# Altium footprint library PCB1.PcbLib: 19 footprints (part 1 of 2)
Each footprint in its own frame and in the unit in brackets; x right, y up, seen from the top. Pads: shape width x height; smd on the part's side, far side on the other; paste and mask are expansions set on the pad; w line width, h text height; cw(c..) or ccw(c..) is an arc to the next point about the centre after c.
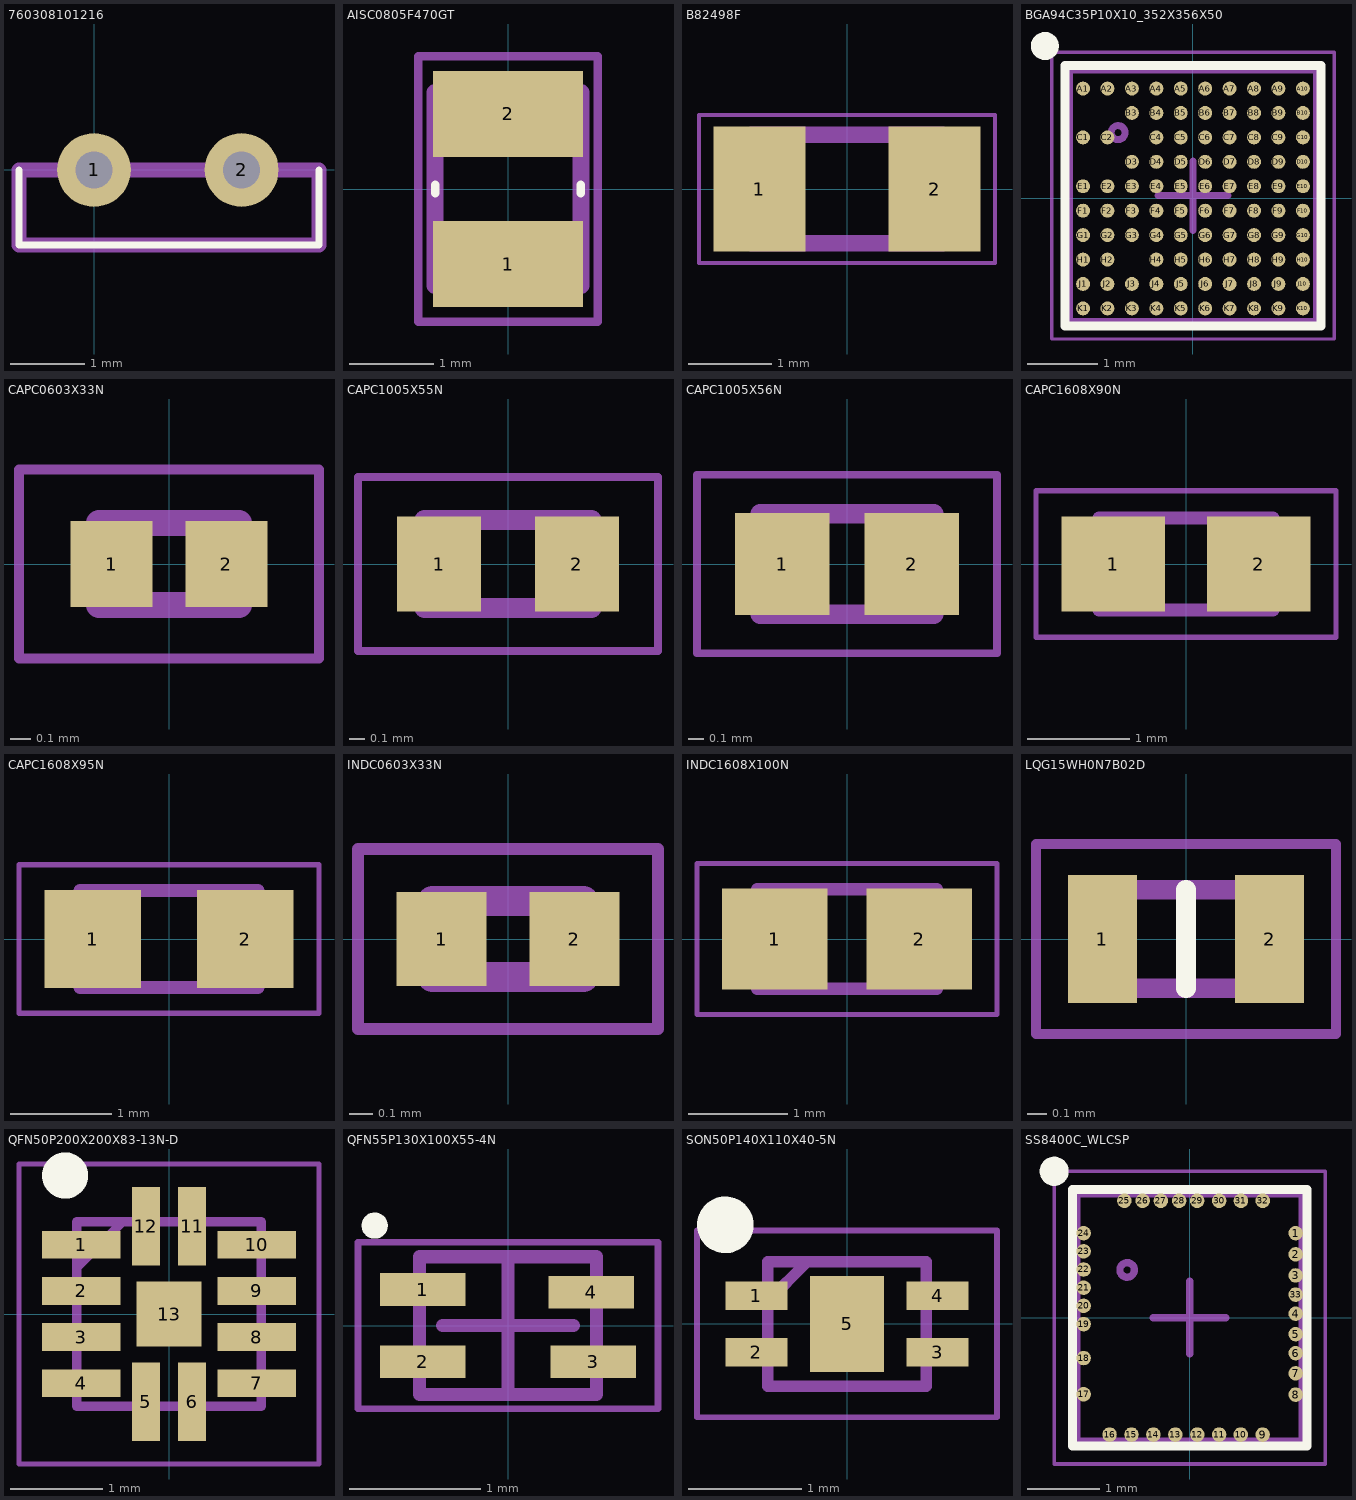
[diagram p0: the footprints below, top view; thin cyan lines are the x and y axes]

## 760308101216 [mm]
pads (2):
  round 1 hole 0.5 mask+0.102: 1(0,0) 2(2,0)
Top Overlay:
  lines w0.1: -1.016,0 -1.016,-1.016 3.048,-1.016 3.048,0
Mechanical 13:
  lines w0.2: -1.016,-1.016 3.048,-1.016 3.048,0 -1.016,0 -1.016,-1.016

## AISC0805F470GT [mm]
pads (2):
  rect 1.78x1.02 smd: 1(0,-0.89) 2(0,0.89)
Top Overlay:
  lines w0.1: -0.865,-0.05 -0.865,0.05 ; 0.865,-0.05 0.865,0.05
Mechanical 13:
  lines w0.2: -0.865,-1.145 -0.865,1.145 0.865,1.145 0.865,-1.145 -0.865,-1.145
Mechanical 15:
  lines w0.1: -1.067,-1.575 -1.067,1.575 1.067,1.575 1.067,-1.575 -1.067,-1.575

## B82498F [mm]
pads (2):
  rect 1.1x1.5 smd: 1(-1.05,0) 2(1.05,0)
Mechanical 13:
  lines w0.2: -1.15,-0.65 1.15,-0.65 1.15,0.65 -1.15,0.65 -1.15,-0.65
Mechanical 15:
  lines w0.05: -1.778,-0.889 1.778,-0.889 1.778,0.889 -1.778,0.889 -1.778,-0.889
3D body "B82498F1472J000.stp": height 1.28, standoff -0.01, extent -1.1,-0.815 1.1,0.815

## BGA94C35P10X10_352X356X50 [mm]
pads (94):
  round 0.2 smd mask+0.04: A1(-1.575,1.575) A2(-1.225,1.575) A3(-0.875,1.575) A4(-0.525,1.575) A5(-0.175,1.575) A6(0.175,1.575) A7(0.525,1.575) A8(0.875,1.575) A9(1.225,1.575) A10(1.575,1.575) B3(-0.875,1.225) B4(-0.525,1.225) B5(-0.175,1.225) B6(0.175,1.225) B7(0.525,1.225) B8(0.875,1.225) B9(1.225,1.225) B10(1.575,1.225) C1(-1.575,0.875) C2(-1.225,0.875) C4(-0.525,0.875) C5(-0.175,0.875) C6(0.175,0.875) C7(0.525,0.875) C8(0.875,0.875) C9(1.225,0.875) C10(1.575,0.875) D3(-0.875,0.525) D4(-0.525,0.525) D5(-0.175,0.525) D6(0.175,0.525) D7(0.525,0.525) D8(0.875,0.525) D9(1.225,0.525) D10(1.575,0.525) E1(-1.575,0.175) E2(-1.225,0.175) E3(-0.875,0.175) E4(-0.525,0.175) E5(-0.175,0.175) E6(0.175,0.175) E7(0.525,0.175) E8(0.875,0.175) E9(1.225,0.175) E10(1.575,0.175) F1(-1.575,-0.175) F2(-1.225,-0.175) F3(-0.875,-0.175) F4(-0.525,-0.175) F5(-0.175,-0.175) F6(0.175,-0.175) F7(0.525,-0.175) F8(0.875,-0.175) F9(1.225,-0.175) F10(1.575,-0.175) G1(-1.575,-0.525) G2(-1.225,-0.525) G3(-0.875,-0.525) G4(-0.525,-0.525) G5(-0.175,-0.525) G6(0.175,-0.525) G7(0.525,-0.525) G8(0.875,-0.525) G9(1.225,-0.525) G10(1.575,-0.525) H1(-1.575,-0.875) H2(-1.225,-0.875) H4(-0.525,-0.875) H5(-0.175,-0.875) H6(0.175,-0.875) H7(0.525,-0.875) H8(0.875,-0.875) H9(1.225,-0.875) H10(1.575,-0.875) J1(-1.575,-1.225) J2(-1.225,-1.225) J3(-0.875,-1.225) J4(-0.525,-1.225) J5(-0.175,-1.225) J6(0.175,-1.225) J7(0.525,-1.225) J8(0.875,-1.225) J9(1.225,-1.225) J10(1.575,-1.225) K1(-1.575,-1.575) K2(-1.225,-1.575) K3(-0.875,-1.575) K4(-0.525,-1.575) K5(-0.175,-1.575) K6(0.175,-1.575) K7(0.525,-1.575) K8(0.875,-1.575) K9(1.225,-1.575) K10(1.575,-1.575)
Top Overlay:
  circle w0.2: c-2.122,2.184 r0.1
  lines w0.125: -1.834,-1.826 -1.834,1.906 1.835,1.906 1.835,-1.826 -1.834,-1.826
Bottom Assembly:
  circle w0.1: c-1.072,0.944 r0.1
  lines w0.1: -1.772,-1.763 1.772,-1.763 1.772,1.844 -1.772,1.844 -1.772,-1.763
  text ".Designator" at -0.7,-0.135 h0.5
Mechanical 15:
  lines w0.05: -2.022,-2.013 2.022,-2.013 2.022,2.094 -2.022,2.094 -2.022,-2.013
  lines w0.1: -0.5,0.04 0.5,0.04 ; 0,-0.46 0,0.54
3D body "Graviton CSP.step": height 0.47, standoff 0, extent -1.772,-1.763 1.772,1.844

## CAPC0603X33N [mm]
pads (2):
  rect 0.4x0.42 smd: 1(-0.28,0) 2(0.28,0)
Mechanical 13:
  lines w0.127: -0.34,-0.2 0.34,-0.2 0.34,0.2 -0.34,0.2 -0.34,-0.2
Mechanical 15:
  lines w0.05: -0.731,-0.461 0.731,-0.461 0.731,0.461 -0.731,0.461 -0.731,-0.461
3D body "step_temp.STEP": height 0.33, standoff 0, extent -0.3,-0.15 0.3,0.15

## CAPC1005X55N [mm]
pads (2):
  rect 0.53x0.6 smd: 1(-0.437,0) 2(0.437,0)
Mechanical 13:
  lines w0.127: -0.53,-0.28 0.53,-0.28 0.53,0.28 -0.53,0.28 -0.53,-0.28
Mechanical 15:
  lines w0.05: -0.95,-0.55 0.95,-0.55 0.95,0.55 -0.95,0.55 -0.95,-0.55
3D body "step_temp.STEP": height 0.55, standoff 0, extent -0.5,-0.25 0.5,0.25

## CAPC1005X56N [mm]
pads (2):
  rect 0.62x0.67 smd: 1(-0.425,0) 2(0.425,0)
Mechanical 13:
  lines w0.127: -0.57,-0.33 0.57,-0.33 0.57,0.33 -0.57,0.33 -0.57,-0.33
Mechanical 15:
  lines w0.05: -0.985,-0.585 0.985,-0.585 0.985,0.585 -0.985,0.585 -0.985,-0.585
3D body "step_temp.STEP": height 0.56, standoff 0, extent -0.5,-0.25 0.5,0.25

## CAPC1608X90N [mm]
pads (2):
  rect 1.01x0.93 smd: 1(-0.709,0) 2(0.709,0)
Mechanical 13:
  lines w0.127: -0.85,-0.45 0.85,-0.45 0.85,0.45 -0.85,0.45 -0.85,-0.45
Mechanical 15:
  lines w0.05: -1.465,-0.715 1.465,-0.715 1.465,0.715 -1.465,0.715 -1.465,-0.715
3D body "step_temp.STEP": height 0.9, standoff 0, extent -0.8,-0.4 0.8,0.4

## CAPC1608X95N [mm]
pads (2):
  rect 0.96x0.97 smd: 1(-0.755,0) 2(0.755,0)
Mechanical 13:
  lines w0.127: -0.88,-0.48 0.88,-0.48 0.88,0.48 -0.88,0.48 -0.88,-0.48
Mechanical 15:
  lines w0.05: -1.485,-0.735 1.485,-0.735 1.485,0.735 -1.485,0.735 -1.485,-0.735
3D body "step_temp.STEP": height 0.95, standoff 0, extent -0.8,-0.4 0.8,0.4

## INDC0603X33N [mm]
pads (2):
  rect 0.38x0.4 smd: 1(-0.281,0) 2(0.281,0)
Mechanical 13:
  lines w0.127: -0.32,-0.16 0.32,-0.16 0.32,0.16 -0.32,0.16 -0.32,-0.16
Mechanical 15:
  lines w0.05: -0.635,-0.381 0.635,-0.381 0.635,0.381 -0.635,0.381 -0.635,-0.381
3D body "step_temp.STEP": height 0.33, standoff 0, extent -0.3,-0.15 0.3,0.15

## INDC1608X100N [mm]
pads (2):
  rect 1.06x1.02 smd: 1(-0.728,0) 2(0.728,0)
Mechanical 13:
  lines w0.127: -0.9,-0.5 -0.9,0.5 0.9,0.5 0.9,-0.5 -0.9,-0.5
Mechanical 15:
  lines w0.05: -1.508,-0.758 -1.508,0.758 1.508,0.758 1.508,-0.758 -1.508,-0.758
3D body "step_temp.STEP": height 1, standoff 0, extent -0.8,-0.4 0.8,0.4

## LQG15WH0N7B02D [mm]
pads (2):
  rect 0.35x0.65 smd: 1(-0.425,0) 2(0.425,0)
Top Overlay:
  lines w0.1: 0,-0.25 0,0.25
Mechanical 13:
  lines w0.1: -0.5,-0.25 -0.5,0.25 0.5,0.25 0.5,-0.25 -0.5,-0.25
Mechanical 15:
  lines w0.05: -0.762,-0.483 -0.762,0.483 0.762,0.483 0.762,-0.483 -0.762,-0.483
3D body "LQG15HN15NJ02D.stp": height 0.55, standoff 0, extent -0.5,-0.25 0.5,0.25

## QFN50P200X200X83-13N-D [mm]
pads (13):
  rect 0.85x0.3 smd: 1(-0.95,0.75) 2(-0.95,0.25) 3(-0.95,-0.25) 4(-0.95,-0.75) 7(0.95,-0.75) 8(0.95,-0.25) 9(0.95,0.25) 10(0.95,0.75)
  rect 0.3x0.85 smd: 5(-0.25,-0.95) 6(0.25,-0.95) 11(0.25,0.95) 12(-0.25,0.95)
  rect 0.7x0.7 smd: 13(0,0)
Top Overlay:
  circle w0.25: c-1.125,1.5 r0.125
Mechanical 13:
  lines w0.1: -1,0.5 -0.5,1 ; -1,-1 -1,1 1,1 1,-1 -1,-1
Mechanical 15:
  lines w0.05: -1.625,-1.625 -1.625,1.625 1.625,1.625 1.625,-1.625 -1.625,-1.625
3D body "LTC4126EV#TRMPBF.stp": height 0.83, standoff 0, extent -1.05,-1.05 1.05,1.05

## QFN55P130X100X55-4N [mm]
pads (4):
  rect 0.65x0.25 smd: 1(-0.65,0.275) 2(-0.65,-0.275) 3(0.65,-0.275) 4(0.635,0.254)
Top Overlay:
  circle w0.1: c-1.016,0.762 r0.05
Mechanical 13:
  lines w0.1: -0.675,-0.525 0.675,-0.525 0.675,0.525 -0.675,0.525 -0.675,-0.525
Mechanical 15:
  lines w0.05: -1.143,-0.635 1.143,-0.635 1.143,0.635 -1.143,0.635 -1.143,-0.635
  lines w0.1: -0.5,0 0.5,0 ; 0,-0.5 0,0.5
3D body "QFN55P130X100X55-4N.step": height 0.55, standoff 0, extent -0.725,-0.525 0.725,0.525

## SON50P140X110X40-5N [mm]
pads (5):
  rect 0.55x0.25 smd: 1(-0.8,0.25) 2(-0.8,-0.25) 3(0.8,-0.25) 4(0.8,0.25)
  rect 0.65x0.85 smd: 5(0,0)
Top Overlay:
  circle w0.25: c-1.075,0.875 r0.125
Mechanical 13:
  lines w0.1: -0.7,0.2 -0.35,0.55 ; -0.7,-0.55 0.7,-0.55 0.7,0.55 -0.7,0.55 -0.7,-0.55
Mechanical 15:
  lines w0.05: -1.325,-0.825 1.325,-0.825 1.325,0.825 -1.325,0.825 -1.325,-0.825
3D body "DRV5032FDDMRR.stp": height 0.4, standoff 0, extent -0.75,-0.55 0.75,0.55

## SS8400C_WLCSP [mm]
pads (33):
  round 0.2 smd mask+0.04: 1(1.458,1.162) 2(1.458,0.871) 3(1.458,0.58) 4(1.458,0.054) 5(1.458,-0.226) 6(1.458,-0.488) 7(1.458,-0.766) 8(1.458,-1.057) 9(1.003,-1.607) 10(0.703,-1.607) 11(0.406,-1.607) 12(0.106,-1.607) 13(-0.197,-1.607) 14(-0.497,-1.607) 15(-0.799,-1.607) 16(-1.101,-1.607) 17(-1.457,-1.053) 18(-1.457,-0.555) 19(-1.457,-0.088) 20(-1.457,0.162) 21(-1.457,0.412) 22(-1.457,0.662) 23(-1.457,0.912) 24(-1.457,1.162) 25(-0.897,1.608) 26(-0.646,1.608) 27(-0.397,1.608) 28(-0.144,1.608) 29(0.103,1.608) 30(0.406,1.608) 31(0.706,1.608) 32(1.006,1.608) 33(1.458,0.318)
Top Overlay:
  circle w0.2: c-1.862,2.013 r0.1
  lines w0.125: -1.612,-1.762 -1.612,1.763 1.613,1.763 1.613,-1.762 -1.612,-1.762
Bottom Assembly:
  circle w0.1: c-0.859,0.656 r0.1
  lines w0.1: -1.55,-1.7 1.55,-1.7 1.55,1.7 -1.55,1.7 -1.55,-1.7
  text ".Designator" at -0.512,-0.447 h0.5
Mechanical 15:
  lines w0.05: -1.862,-2.012 -1.862,2.013 1.863,2.013 1.863,-2.012 -1.862,-2.012
  lines w0.1: -0.5,0 0.5,0 ; 0,-0.5 0,0.5
3D body: height 0.25, standoff 0.18, extent -1.55,-1.7 1.55,1.7